# Altium schematic symbol library Interface.SchLib: 114 symbols (part 2 of 2)
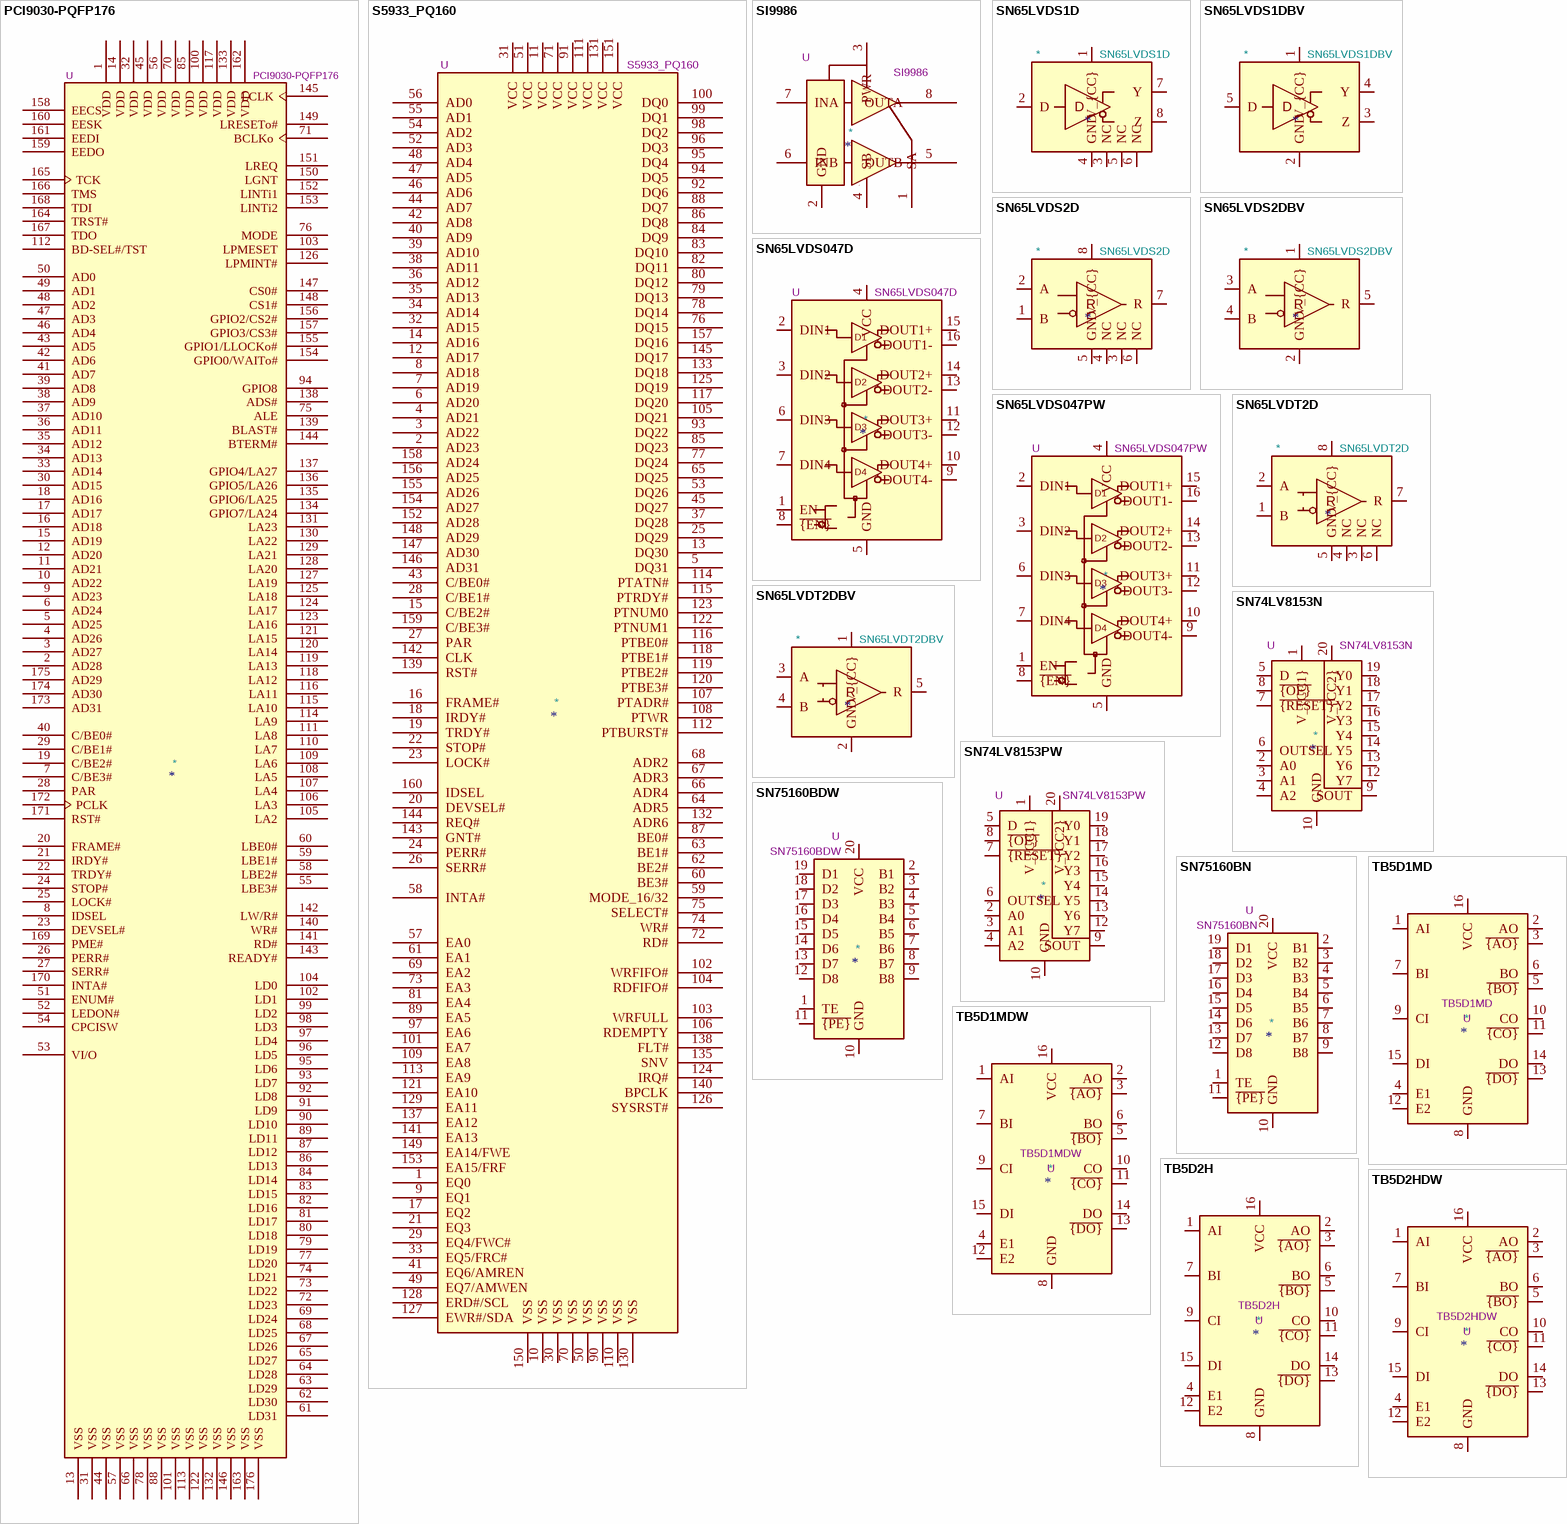
[diagram p6: symbols PCI9030-PQFP176 to TB5D2HDW]

## SN65LVDT2D
designator *  value SN65LVDT2D
ki_keywords: LVDS Receiver TI; ki_description: High-Speed Differential Line Receiver, 110 Ω Terminated, 630Mbps, SOIC-8; ki_fp_filters: *SOIC*3.9x4.9mm*P1.27mm*; Footprint: Package_SO:SOIC-8_3.9x4.9mm_P1.27mm; Supplier: https://www.ti.com/lit/ds/symlink/sn65lvdt2.pdf
footprint SOIC-8_3.9x4.9mm_P1.27mm
pins: 1 B, 2 A, 3 NC, 4 NC, 5 GND, 6 NC, 7 R, 8 V_{CC}

## SN65LVDT2DBV
designator *  value SN65LVDT2DBV
ki_keywords: LVDS Receiver TI; ki_description: High-Speed Differential Line Receiver, 110 Ω Terminated, 630Mbps, SOT-23-5; ki_fp_filters: SOT?23*; Footprint: Package_TO_SOT_SMD:SOT-23-5; Supplier: https://www.ti.com/lit/ds/symlink/sn65lvdt2.pdf
footprint SOT-23-5
pins: 1 V_{CC}, 2 GND, 3 A, 4 B, 5 R

## SN74LV8153N
designator *  value SN74LV8153N  Reference: U
ki_keywords: serial to parallel; ki_description: UART, Single wire input, Output 40mA, Open Collector or Push Pull, PDIP-20; ki_fp_filters: DIP*W7.62mm*; Footprint: Package_DIP:DIP-20_W7.62mm; Datasheet: https://www.ti.com/lit/ds/symlink/sn74lv8153.pdf
pins: 1 V_{CC1}, 2 A0, 3 A1, 4 A2, 5 D, 6 OUTSEL, 7 ~{{RESET}}, 8 ~{{OE}}, 9 SOUT, 10 GND, 11 GND hidden, 12 Y7, 13 Y6, 14 Y5, 15 Y4, 16 Y3, 17 Y2, 18 Y1, 19 Y0, 20 V_{CC2}

## SN74LV8153PW
designator *  value SN74LV8153PW  Reference: U
ki_keywords: serial to parallel; ki_description: UART, Single wire input, Output 40mA, Open Collector or Push Pull, TSSOP-20; ki_fp_filters: TSSOP*4.4x6.5mm*P0.65mm*; Footprint: Package_SO:TSSOP-20_4.4x6.5mm_P0.65mm; Datasheet: https://www.ti.com/lit/ds/symlink/sn74lv8153.pdf
pins: 1 V_{CC1}, 2 A0, 3 A1, 4 A2, 5 D, 6 OUTSEL, 7 ~{{RESET}}, 8 ~{{OE}}, 9 SOUT, 10 GND, 11 GND hidden, 12 Y7, 13 Y6, 14 Y5, 15 Y4, 16 Y3, 17 Y2, 18 Y1, 19 Y0, 20 V_{CC2}

## SN75160BDW
designator *  value SN75160BDW  Reference: U
ki_keywords: gpib bidirectional bus transceiver; ki_description: Octal general-purpose interface bus transceiver, SOIC-20; ki_fp_filters: SOIC*7.5x12.8mm*P1.27mm*; Footprint: Package_SO:SOIC-20W_7.5x12.8mm_P1.27mm; Datasheet: http://www.ti.com/lit/ds/symlink/sn75160b.pdf
pins: 1 TE, 2 B1, 3 B2, 4 B3, 5 B4, 6 B5, 7 B6, 8 B7, 9 B8, 10 GND, 11 ~{{PE}}, 12 D8, 13 D7, 14 D6, 15 D5, 16 D4, 17 D3, 18 D2, 19 D1, 20 VCC

## SN75160BN
designator *  value SN75160BN  Reference: U
ki_keywords: gpib bidirectional bus transceiver; ki_description: Octal general-purpose interface bus transceiver, DIP-20; ki_fp_filters: DIP*W7.62mm*; Footprint: Package_DIP:DIP-20_W7.62mm; Datasheet: http://www.ti.com/lit/ds/symlink/sn75160b.pdf
pins: 1 TE, 2 B1, 3 B2, 4 B3, 5 B4, 6 B5, 7 B6, 8 B7, 9 B8, 10 GND, 11 ~{{PE}}, 12 D8, 13 D7, 14 D6, 15 D5, 16 D4, 17 D3, 18 D2, 19 D1, 20 VCC

## TB5D1MD
designator *  value TB5D1MD  Reference: U
ki_keywords: differential PECL driver; ki_description: Quad differential PECL driver; ki_fp_filters: SOIC*3.9x9.9mm*P1.27*; Footprint: Package_SO:SOIC-16_3.9x9.9mm_P1.27mm; Datasheet: http://www.ti.com/lit/ds/symlink/tb5d2h.pdf
pins: 1 AI, 2 AO, 3 ~{{AO}}, 4 E1, 5 ~{{BO}}, 6 BO, 7 BI, 8 GND, 9 CI, 10 CO, 11 ~{{CO}}, 12 E2, 13 ~{{DO}}, 14 DO, 15 DI, 16 VCC

## TB5D1MDW
designator *  value TB5D1MDW  Reference: U
ki_keywords: differential PECL driver; ki_description: Quad differential PECL driver; ki_fp_filters: SOIC*7.5x10.3mm*P1.27*; Footprint: Package_SO:SOIC-16W_7.5x10.3mm_P1.27mm; Datasheet: http://www.ti.com/lit/ds/symlink/tb5d2h.pdf
pins: 1 AI, 2 AO, 3 ~{{AO}}, 4 E1, 5 ~{{BO}}, 6 BO, 7 BI, 8 GND, 9 CI, 10 CO, 11 ~{{CO}}, 12 E2, 13 ~{{DO}}, 14 DO, 15 DI, 16 VCC

## TB5D2H
designator *  value TB5D2H  Reference: U
ki_keywords: differential PECL driver; ki_description: Quad differential PECL driver; ki_fp_filters: SOIC*3.9x9.9mm*P1.27*; Footprint: Package_SO:SOIC-16_3.9x9.9mm_P1.27mm; Datasheet: http://www.ti.com/lit/ds/symlink/tb5d2h.pdf
pins: 1 AI, 2 AO, 3 ~{{AO}}, 4 E1, 5 ~{{BO}}, 6 BO, 7 BI, 8 GND, 9 CI, 10 CO, 11 ~{{CO}}, 12 E2, 13 ~{{DO}}, 14 DO, 15 DI, 16 VCC

## TB5D2HDW
designator *  value TB5D2HDW  Reference: U
ki_keywords: differential PECL driver; ki_description: Quad differential PECL driver; ki_fp_filters: SOIC*7.5x10.3mm*P1.27*; Footprint: Package_SO:SOIC-16W_7.5x10.3mm_P1.27mm; Datasheet: http://www.ti.com/lit/ds/symlink/tb5d2h.pdf
pins: 1 AI, 2 AO, 3 ~{{AO}}, 4 E1, 5 ~{{BO}}, 6 BO, 7 BI, 8 GND, 9 CI, 10 CO, 11 ~{{CO}}, 12 E2, 13 ~{{DO}}, 14 DO, 15 DI, 16 VCC

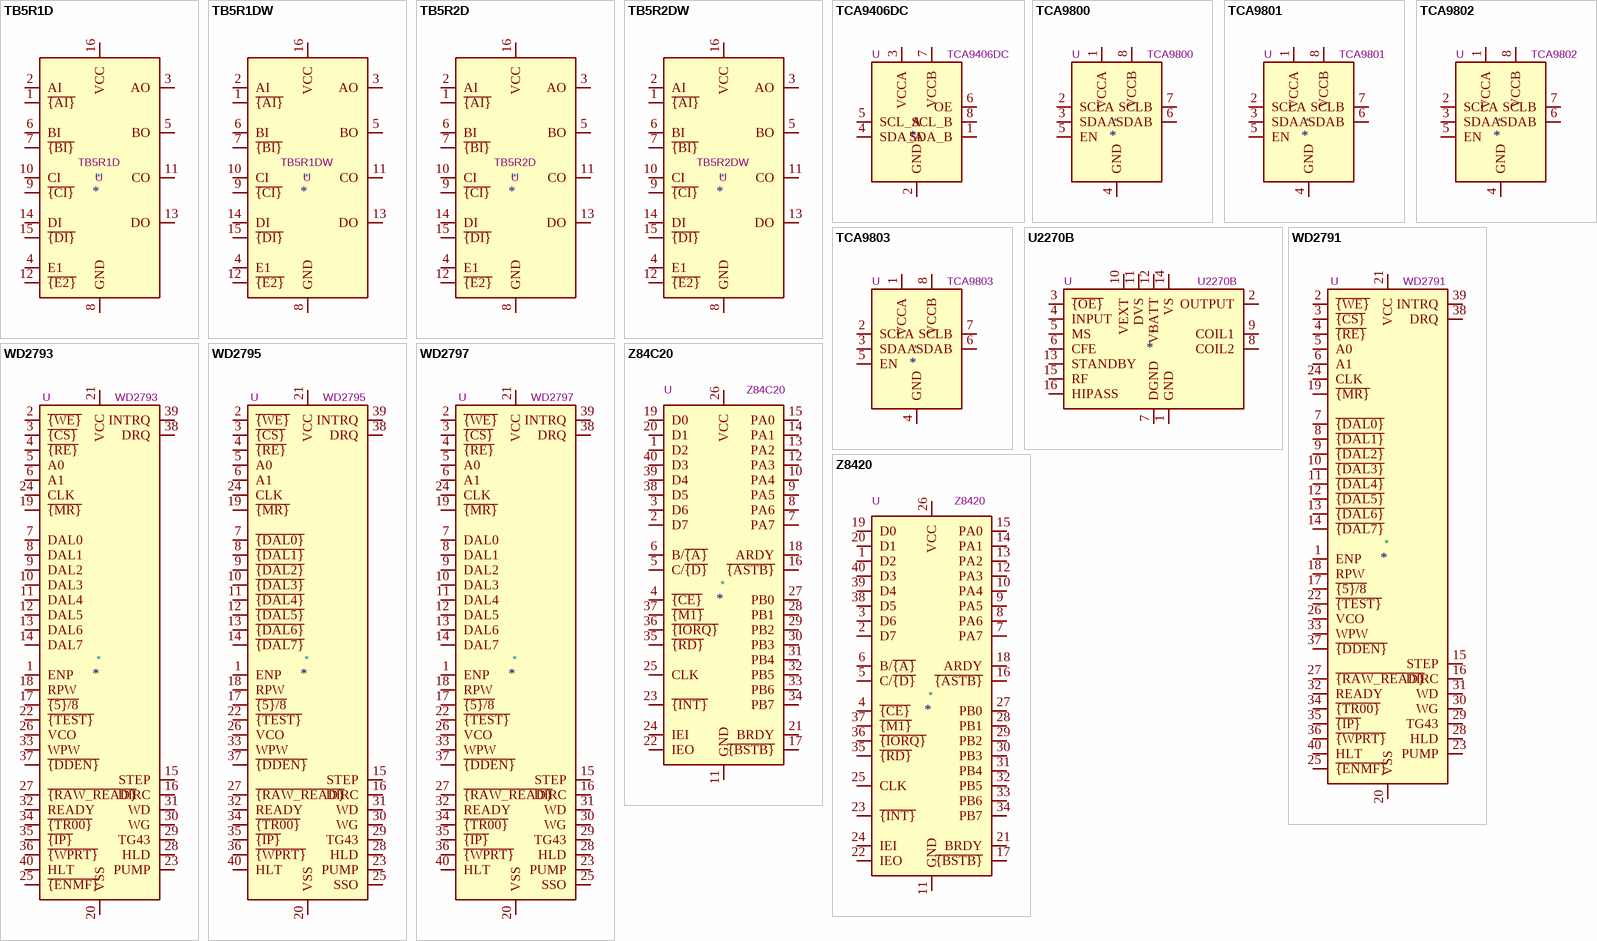
[diagram p5: symbols TB5R1D to Z8420]

## TB5R1D
designator *  value TB5R1D  Reference: U
ki_keywords: differential PECL reciver; ki_description: Quad differential PECL reciver; ki_fp_filters: SOIC*3.9x9.9mm*P1.27*; Footprint: Package_SO:SOIC-16_3.9x9.9mm_P1.27mm; Datasheet: http://www.ti.com/lit/ds/symlink/tb5r1.pdf
pins: 1 ~{{AI}}, 2 AI, 3 AO, 4 E1, 5 BO, 6 BI, 7 ~{{BI}}, 8 GND, 9 ~{{CI}}, 10 CI, 11 CO, 12 ~{{E2}}, 13 DO, 14 DI, 15 ~{{DI}}, 16 VCC

## TB5R1DW
designator *  value TB5R1DW  Reference: U
ki_keywords: differential PECL reciver; ki_description: Quad differential PECL reciver; ki_fp_filters: SOIC*7.5x10.3mm*P1.27*; Footprint: Package_SO:SOIC-16W_7.5x10.3mm_P1.27mm; Datasheet: http://www.ti.com/lit/ds/symlink/tb5r1.pdf
pins: 1 ~{{AI}}, 2 AI, 3 AO, 4 E1, 5 BO, 6 BI, 7 ~{{BI}}, 8 GND, 9 ~{{CI}}, 10 CI, 11 CO, 12 ~{{E2}}, 13 DO, 14 DI, 15 ~{{DI}}, 16 VCC

## TB5R2D
designator *  value TB5R2D  Reference: U
ki_keywords: differential PECL reciver; ki_description: Quad differential PECL reciver; ki_fp_filters: SOIC*3.9x9.9mm*P1.27*; Footprint: Package_SO:SOIC-16_3.9x9.9mm_P1.27mm; Datasheet: http://www.ti.com/lit/ds/symlink/tb5r1.pdf
pins: 1 ~{{AI}}, 2 AI, 3 AO, 4 E1, 5 BO, 6 BI, 7 ~{{BI}}, 8 GND, 9 ~{{CI}}, 10 CI, 11 CO, 12 ~{{E2}}, 13 DO, 14 DI, 15 ~{{DI}}, 16 VCC

## TB5R2DW
designator *  value TB5R2DW  Reference: U
ki_keywords: differential PECL reciver; ki_description: Quad differential PECL reciver; ki_fp_filters: SOIC*7.5x10.3mm*P1.27*; Footprint: Package_SO:SOIC-16W_7.5x10.3mm_P1.27mm; Datasheet: http://www.ti.com/lit/ds/symlink/tb5r1.pdf
pins: 1 ~{{AI}}, 2 AI, 3 AO, 4 E1, 5 BO, 6 BI, 7 ~{{BI}}, 8 GND, 9 ~{{CI}}, 10 CI, 11 CO, 12 ~{{E2}}, 13 DO, 14 DI, 15 ~{{DI}}, 16 VCC

## TCA9406DC
designator *  value TCA9406DC  Reference: U
ki_keywords: Bidirectional 1-MHz I2C SMBus Voltage-Level Translator 8kV HBM ESD; ki_description: 2-Bit Bidirectional 1-MHz, I2C Bus and SMBus Voltage-Level Translator With 8-kV HBM ESD; ki_fp_filters: SSOP*2.95x2.8mm*P0.65mm* VSSOP*2.3x2mm*P0.5mm*; Datasheet: www.ti.com/lit/ds/symlink/tca9406.pdf
pins: 1 SDA_B, 2 GND, 3 VCCA, 4 SDA_A, 5 SCL_A, 6 OE, 7 VCCB, 8 SCL_B

## TCA9800
designator *  value TCA9800  Reference: U
ki_keywords: I2C buffer repeater; ki_description: Level-Translating I2C Bus Buffer/Repeater 0.54mA Current Source, VSSOP-8; ki_fp_filters: VSSOP*3.0x3.0mm*P0.65mm*; Footprint: Package_SO:VSSOP-8_3.0x3.0mm_P0.65mm; Datasheet: http://www.ti.com/lit/ds/symlink/tca9800.pdf
pins: 1 VCCA, 2 SCLA, 3 SDAA, 4 GND, 5 EN, 6 SDAB, 7 SCLB, 8 VCCB

## TCA9801
designator *  value TCA9801  Reference: U
ki_keywords: I2C buffer repeater; ki_description: Level-Translating I2C Bus Buffer/Repeater 1.1mA Current Source, VSSOP-8; ki_fp_filters: VSSOP*3.0x3.0mm*P0.65mm*; Footprint: Package_SO:VSSOP-8_3.0x3.0mm_P0.65mm; Datasheet: http://www.ti.com/lit/ds/symlink/tca9801.pdf
pins: 1 VCCA, 2 SCLA, 3 SDAA, 4 GND, 5 EN, 6 SDAB, 7 SCLB, 8 VCCB

## TCA9802
designator *  value TCA9802  Reference: U
ki_keywords: I2C buffer repeater; ki_description: Level-Translating I2C Bus Buffer/Repeater 2.2mA Current Source, VSSOP-8; ki_fp_filters: VSSOP*3.0x3.0mm*P0.65mm*; Footprint: Package_SO:VSSOP-8_3.0x3.0mm_P0.65mm; Datasheet: http://www.ti.com/lit/ds/symlink/tca9802.pdf
pins: 1 VCCA, 2 SCLA, 3 SDAA, 4 GND, 5 EN, 6 SDAB, 7 SCLB, 8 VCCB

## TCA9803
designator *  value TCA9803  Reference: U
ki_keywords: I2C buffer repeater; ki_description: Level-Translating I2C Bus Buffer/Repeater 3.3mA Current Source, VSSOP-8; ki_fp_filters: VSSOP*3.0x3.0mm*P0.65mm*; Footprint: Package_SO:VSSOP-8_3.0x3.0mm_P0.65mm; Datasheet: http://www.ti.com/lit/ds/symlink/tca9803.pdf
pins: 1 VCCA, 2 SCLA, 3 SDAA, 4 GND, 5 EN, 6 SDAB, 7 SCLB, 8 VCCB

## U2270B
designator *  value U2270B  Reference: U
ki_keywords: IDIC read/write base stations in contactless identification and immobilizer systems; ki_description: IDIC read/write base stations in contactless identification and immobilizer systems, SO-16; ki_fp_filters: SOIC*3.9x9.9mm*P1.27mm*; Footprint: Package_SO:SOIC-16_3.9x9.9mm_P1.27mm; Datasheet: http://www.farnell.com/datasheets/94393.pdf
pins: 1 GND, 2 OUTPUT, 3 ~{{OE}}, 4 INPUT, 5 MS, 6 CFE, 7 DGND, 8 COIL2, 9 COIL1, 10 VEXT, 11 DVS, 12 VBATT, 13 STANDBY, 14 VS, 15 RF, 16 HIPASS

## WD2791
designator *  value WD2791  Reference: U
ki_keywords: Floppy disk controller; ki_description: Floppy disk controller, DIP-40; ki_fp_filters: DIP*W15.24mm*; Footprint: Package_DIP:DIP-40_W15.24mm; Datasheet: http://pdf.datasheetcatalog.com/datasheets2/12/1229802_1.pdf
pins: 1 ENP, 2 ~{{WE}}, 3 ~{{CS}}, 4 ~{{RE}}, 5 A0, 6 A1, 7 ~{{DAL0}}, 8 ~{{DAL1}}, 9 ~{{DAL2}}, 10 ~{{DAL3}}, 11 ~{{DAL4}}, 12 ~{{DAL5}}, 13 ~{{DAL6}}, 14 ~{{DAL7}}, 15 STEP, 16 DIRC, 17 ~{{5}/8}, 18 RPW, 19 ~{{MR}}, 20 VSS, 21 VCC, 22 ~{{TEST}}, 23 PUMP, 24 CLK, 25 ~{{ENMF}}, 26 VCO, 27 ~{{RAW_READ}}, 28 HLD, 29 TG43, 30 WG, 31 WD, 32 READY, 33 WPW, 34 ~{{TR00}}, 35 ~{{IP}}, 36 ~{{WPRT}}, 37 ~{{DDEN}}, 38 DRQ, 39 INTRQ, 40 HLT

## WD2793
designator *  value WD2793  Reference: U
ki_keywords: Floppy disk controller; ki_description: Floppy disk controller, DIP-40; ki_fp_filters: DIP*W15.24mm*; Footprint: Package_DIP:DIP-40_W15.24mm; Datasheet: http://pdf.datasheetcatalog.com/datasheets2/12/1229802_1.pdf
pins: 1 ENP, 2 ~{{WE}}, 3 ~{{CS}}, 4 ~{{RE}}, 5 A0, 6 A1, 7 DAL0, 8 DAL1, 9 DAL2, 10 DAL3, 11 DAL4, 12 DAL5, 13 DAL6, 14 DAL7, 15 STEP, 16 DIRC, 17 ~{{5}/8}, 18 RPW, 19 ~{{MR}}, 20 VSS, 21 VCC, 22 ~{{TEST}}, 23 PUMP, 24 CLK, 25 ~{{ENMF}}, 26 VCO, 27 ~{{RAW_READ}}, 28 HLD, 29 TG43, 30 WG, 31 WD, 32 READY, 33 WPW, 34 ~{{TR00}}, 35 ~{{IP}}, 36 ~{{WPRT}}, 37 ~{{DDEN}}, 38 DRQ, 39 INTRQ, 40 HLT

## WD2795
designator *  value WD2795  Reference: U
ki_keywords: Floppy disk controller; ki_description: Floppy disk controller, DIP-40; ki_fp_filters: DIP*W15.24mm*; Footprint: Package_DIP:DIP-40_W15.24mm; Datasheet: http://pdf.datasheetcatalog.com/datasheets2/12/1229802_1.pdf
pins: 1 ENP, 2 ~{{WE}}, 3 ~{{CS}}, 4 ~{{RE}}, 5 A0, 6 A1, 7 ~{{DAL0}}, 8 ~{{DAL1}}, 9 ~{{DAL2}}, 10 ~{{DAL3}}, 11 ~{{DAL4}}, 12 ~{{DAL5}}, 13 ~{{DAL6}}, 14 ~{{DAL7}}, 15 STEP, 16 DIRC, 17 ~{{5}/8}, 18 RPW, 19 ~{{MR}}, 20 VSS, 21 VCC, 22 ~{{TEST}}, 23 PUMP, 24 CLK, 25 SSO, 26 VCO, 27 ~{{RAW_READ}}, 28 HLD, 29 TG43, 30 WG, 31 WD, 32 READY, 33 WPW, 34 ~{{TR00}}, 35 ~{{IP}}, 36 ~{{WPRT}}, 37 ~{{DDEN}}, 38 DRQ, 39 INTRQ, 40 HLT

## WD2797
designator *  value WD2797  Reference: U
ki_keywords: Floppy disk controller; ki_description: Floppy disk controller, DIP-40; ki_fp_filters: DIP*W15.24mm*; Footprint: Package_DIP:DIP-40_W15.24mm; Datasheet: http://pdf.datasheetcatalog.com/datasheets2/12/1229802_1.pdf
pins: 1 ENP, 2 ~{{WE}}, 3 ~{{CS}}, 4 ~{{RE}}, 5 A0, 6 A1, 7 DAL0, 8 DAL1, 9 DAL2, 10 DAL3, 11 DAL4, 12 DAL5, 13 DAL6, 14 DAL7, 15 STEP, 16 DIRC, 17 ~{{5}/8}, 18 RPW, 19 ~{{MR}}, 20 VSS, 21 VCC, 22 ~{{TEST}}, 23 PUMP, 24 CLK, 25 SSO, 26 VCO, 27 ~{{RAW_READ}}, 28 HLD, 29 TG43, 30 WG, 31 WD, 32 READY, 33 WPW, 34 ~{{TR00}}, 35 ~{{IP}}, 36 ~{{WPRT}}, 37 ~{{DDEN}}, 38 DRQ, 39 INTRQ, 40 HLT

## Z84C20
designator *  value Z84C20  Reference: U
ki_keywords: Z80 PIO parallel; ki_description: Parallel I/O, CMOS, DIP-40; ki_fp_filters: DIP*W15.24mm*; Footprint: Package_DIP:DIP-40_W15.24mm; Datasheet: https://www.zilog.com/appnotes_download.php?FromPage=DirectLink&dn=PS0180&ft=Product%20Specification%20(Data%20Sheet)%20%20&f=YUhSMGNEb3ZMM2QzZHk1NmFXeHZaeTVqYjIwdlpHOWpjeTk2T0RBdmNITXdNVGd3TG5Ca1pnPT0=
pins: 1 D2, 2 D7, 3 D6, 4 ~{{CE}}, 5 C/~{{D}}, 6 B/~{{A}}, 7 PA7, 8 PA6, 9 PA5, 10 PA4, 11 GND, 12 PA3, 13 PA2, 14 PA1, 15 PA0, 16 ~{{ASTB}}, 17 ~{{BSTB}}, 18 ARDY, 19 D0, 20 D1, 21 BRDY, 22 IEO, 23 ~{{INT}}, 24 IEI, 25 CLK, 26 VCC, 27 PB0, 28 PB1, 29 PB2, 30 PB3, 31 PB4, 32 PB5, 33 PB6, 34 PB7, 35 ~{{RD}}, 36 ~{{IORQ}}, 37 ~{{M1}}, 38 D5, 39 D4, 40 D3

## Z8420
designator *  value Z8420  Reference: U
ki_keywords: Z80 PIO parallel; ki_description: Parallel I/O, DIP-40; ki_fp_filters: DIP*W15.24mm*; Footprint: Package_DIP:DIP-40_W15.24mm; Datasheet: https://www.zilog.com/appnotes_download.php?FromPage=DirectLink&dn=PS0180&ft=Product%20Specification%20(Data%20Sheet)%20%20&f=YUhSMGNEb3ZMM2QzZHk1NmFXeHZaeTVqYjIwdlpHOWpjeTk2T0RBdmNITXdNVGd3TG5Ca1pnPT0=
pins: 1 D2, 2 D7, 3 D6, 4 ~{{CE}}, 5 C/~{{D}}, 6 B/~{{A}}, 7 PA7, 8 PA6, 9 PA5, 10 PA4, 11 GND, 12 PA3, 13 PA2, 14 PA1, 15 PA0, 16 ~{{ASTB}}, 17 ~{{BSTB}}, 18 ARDY, 19 D0, 20 D1, 21 BRDY, 22 IEO, 23 ~{{INT}}, 24 IEI, 25 CLK, 26 VCC, 27 PB0, 28 PB1, 29 PB2, 30 PB3, 31 PB4, 32 PB5, 33 PB6, 34 PB7, 35 ~{{RD}}, 36 ~{{IORQ}}, 37 ~{{M1}}, 38 D5, 39 D4, 40 D3